# EAGLE library part 52207-0885 (library molex)
SOCKET FPC, SMT, 1MM, 8 WAY
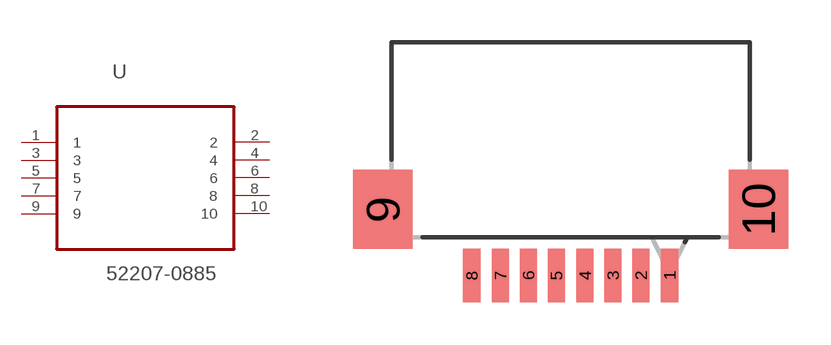
[diagram p1: symbol with the pads of MOLEX_52207-0885; footprint MOLEX_52207-0885]

Designator prefix U

## 52207-0885 (MPN: 52207-0885; OC_FARNELL: -; OC_NEWARK: 07P8553; PACKAGE: SOCKET FPC, SMT, 1MM, 8 WAY; SUPPLIER: Molex)  [MOLEX_52207-0885]
1  1  pas
2  2  pas
3  3  pas
4  4  pas
5  5  pas
6  6  pas
7  7  pas
8  8  pas
9  9  pas
10  10  pas

## Footprint MOLEX_52207-0885 (pad centres in mm)
smd 0.61 x 1.905: 1 3.505,4.801; 2 2.489,4.801; 3 1.499,4.801; 4 0.508,4.801; 5 -0.508,4.801; 6 -1.499,4.801; 7 -2.489,4.801; 8 -3.505,4.801
smd 2.108 x 2.794: 9 -6.655,7.137; 10 6.655,7.137